# Altium footprint library c6032_28.PcbLib: 1 footprints
Each footprint in its own frame and in the unit in brackets; x right, y up, seen from the top. Pads: shape width x height; smd on the part's side, far side on the other; paste and mask are expansions set on the pad; w line width, h text height; cw(c..) or ccw(c..) is an arc to the next point about the centre after c.
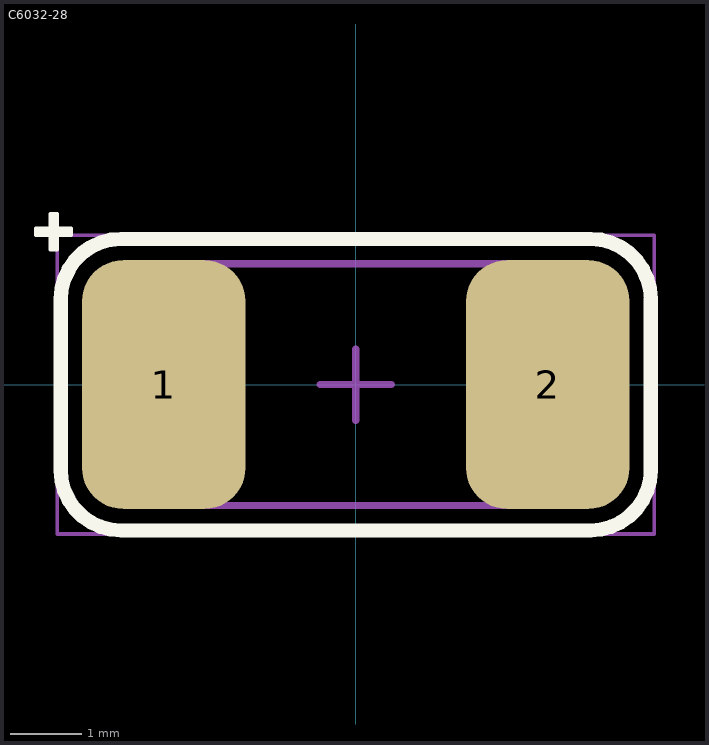
[diagram p0: the footprint, top view; thin cyan lines are the x and y axes]

## C6032-28 [mm] "Chip Tantalum Capacitor, 2-Leads, Body 6,00x3,20mm, IPC Medium Density"
height 2.8
pads (2):
  rrect50% 2.3x3.5 smd: 1(-2.7,0) 2(2.7,0)
Top Layer:
  lines w0.05: 2.425,-0.75 2.45,-0.75
Top Overlay:
  rectangle: -4.3,1.9 -4.2,2.4
  rectangle: -4.5,2.1 -4,2.2
  lines w0.05: -4.5,2.1 -4.3,2.1 -4.3,1.9 -4.2,1.9 -4.2,2.1 -4,2.1 -4,2.2 -4.2,2.2 -4.2,2.4 -4.3,2.4 -4.3,2.2 -4.5,2.2 -4.5,2.1
  lines w0.2: -4.15,-1.2 ccw(c-3.3,-1.2) -3.3,-2.05 3.3,-2.05 ccw(c3.3,-1.2) 4.15,-1.2 4.15,1.2 ccw(c3.3,1.2) 3.3,2.05 -3.3,2.05 ccw(c-3.3,1.2) -4.15,1.2 -4.15,-1.2
Top Comment:
  text ".Comment" at 1,2.3 h1.2
Top Designator:
  text ".Designator" at -0.5,2.3 h1.2
Top Component Outline:
  lines w0.1: -3.1,-1.7 -3.1,1.7 3.1,1.7 3.1,-1.7 -3.1,-1.7
Top Courtyard (Mech15):
  lines w0.05: -4.2,-2.1 -4.2,2.1 4.2,2.1 4.2,-2.1 -4.2,-2.1
  lines w0.1: -0.5,0 0.5,0 ; 0,-0.5 0,0.5
3D body "C6032-28.STEP": height 2.54, standoff 0.02, extent -3.099,-1.675 3.099,1.678